# EAGLE library part RJ45_TRANSFORMER_HST2038DR (library dragino)
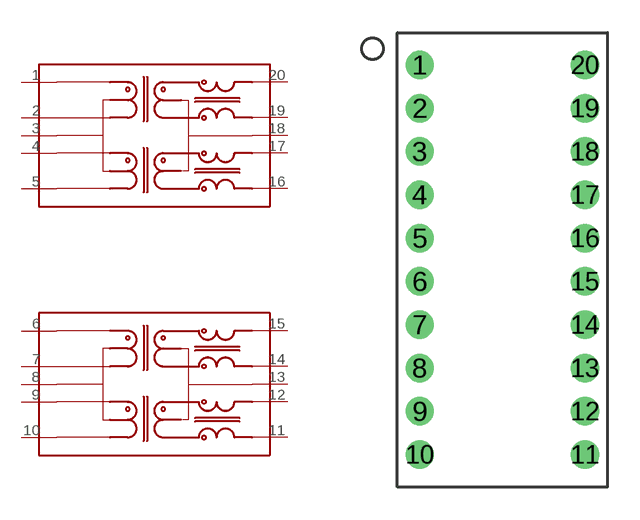
[diagram p28: symbol with the pads of RIONET_H2038; footprint RIONET_H2038]

Designator prefix -; gates G$1=RIONET_ETHERNET-TRAFO G$2=RIONET_ETHERNET-TRAFO

## RJ45_TRANSFORMER_HST2038DR  [RIONET_H2038]
1  G$1:TD+  pas
2  G$1:TD-  pas
3  G$1:CT1  pas
4  G$1:RD+  pas
5  G$1:RD-  pas
6  G$2:TD+  pas
7  G$2:TD-  pas
8  G$2:CT1  pas
9  G$2:RD+  pas
10  G$2:RD-  pas
11  G$2:RX-  pas
12  G$2:RX+  pas
13  G$2:CT2  pas
14  G$2:TX-  pas
15  G$2:TX+  pas
16  G$1:RX-  pas
17  G$1:RX+  pas
18  G$1:CT2  pas
19  G$1:TX-  pas
20  G$1:TX+  pas

## Footprint RIONET_H2038 (pad centres in mm)
drill 0.8: 1 -3.81,9; 2 -3.81,7; 3 -3.81,5; 4 -3.81,3; 5 -3.81,1; 6 -3.81,-1; 7 -3.81,-3; 8 -3.81,-5; 9 -3.81,-7; 10 -3.81,-9; 11 3.81,-9; 12 3.81,-7; 13 3.81,-5; 14 3.81,-3; 15 3.81,-1; 16 3.81,1; 17 3.81,3; 18 3.81,5; 19 3.81,7; 20 3.81,9